# EAGLE library part 91930-21125LF (library SHC)
Female 25 contact connector http://search.digikey.com/us/en/products/91930-21125LF/609-1592-ND/1001906
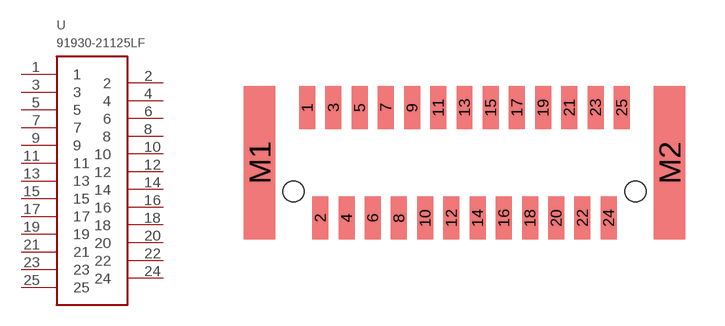
[diagram p30: symbol with the pads of 91930-21125LF; footprint 91930-21125LF]

Designator prefix -

## 91930-21125LF  [91930-21125LF]
1  1
2  2
3  3
4  4
5  5
6  6
7  7
8  8
9  9
10  10
11  11
12  12
13  13
14  14
15  15
16  16
17  17
18  18
19  19
20  20
21  21
22  22
23  23
24  24
25  25

## Footprint 91930-21125LF (pad centres in mm)
smd 0.61 x 1.63: 1 -6,2.11; 2 -5.5,-2.11; 3 -5,2.11; 4 -4.5,-2.11; 5 -4,2.11; 6 -3.5,-2.11; 7 -3,2.11; 8 -2.5,-2.11; 9 -2,2.11; 10 -1.5,-2.11; 11 -1,2.11; 12 -0.5,-2.11; 13 0,2.11; 14 0.5,-2.11; 15 1,2.11; 16 1.5,-2.11; 17 2,2.11; 18 2.5,-2.11; 19 3,2.11; 20 3.5,-2.11; 21 4,2.11; 22 4.5,-2.11; 23 5,2.11; 24 5.5,-2.11; 25 6,2.11
smd 1.2 x 5.85: M1 -7.82,0; M2 7.82,0
hole 0.8 at 6.528,-1.1
hole 0.8 at -6.528,-1.1